# Altium schematic symbol library 16SVPC100M.SchLib: 1 symbol
Pins are listed as number, name and electrical type; pins without a type are passive.

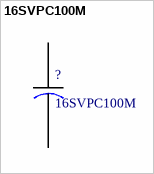
[diagram p0: symbol 16SVPC100M]

## 16SVPC100M
designator ?
SVPC Series 16 V 100 uF أک 6.3 x 5.9 mm Surface Mount Polymer Aluminum Capacitor; MF: Panasonic; MP: 16SVPC100M; Price: None; Availability: Unavailable; Package: Radial Panasonic; SnapEDA_Link: https://www.snapeda.com/parts/16SVPC100M/Panasonic%20Electronic%20Components/view-part/?ref=snap; Value: *
footprint *CAPAE0607X600N_16SVPC100M(Primary)
pins: NEG, POS